# Altium footprint library Expansion board.PcbLib: 24 footprints (part 1 of 2)
Each footprint in its own frame and in the unit in brackets; x right, y up, seen from the top. Pads: shape width x height; smd on the part's side, far side on the other; paste and mask are expansions set on the pad; w line width, h text height; cw(c..) or ccw(c..) is an arc to the next point about the centre after c.
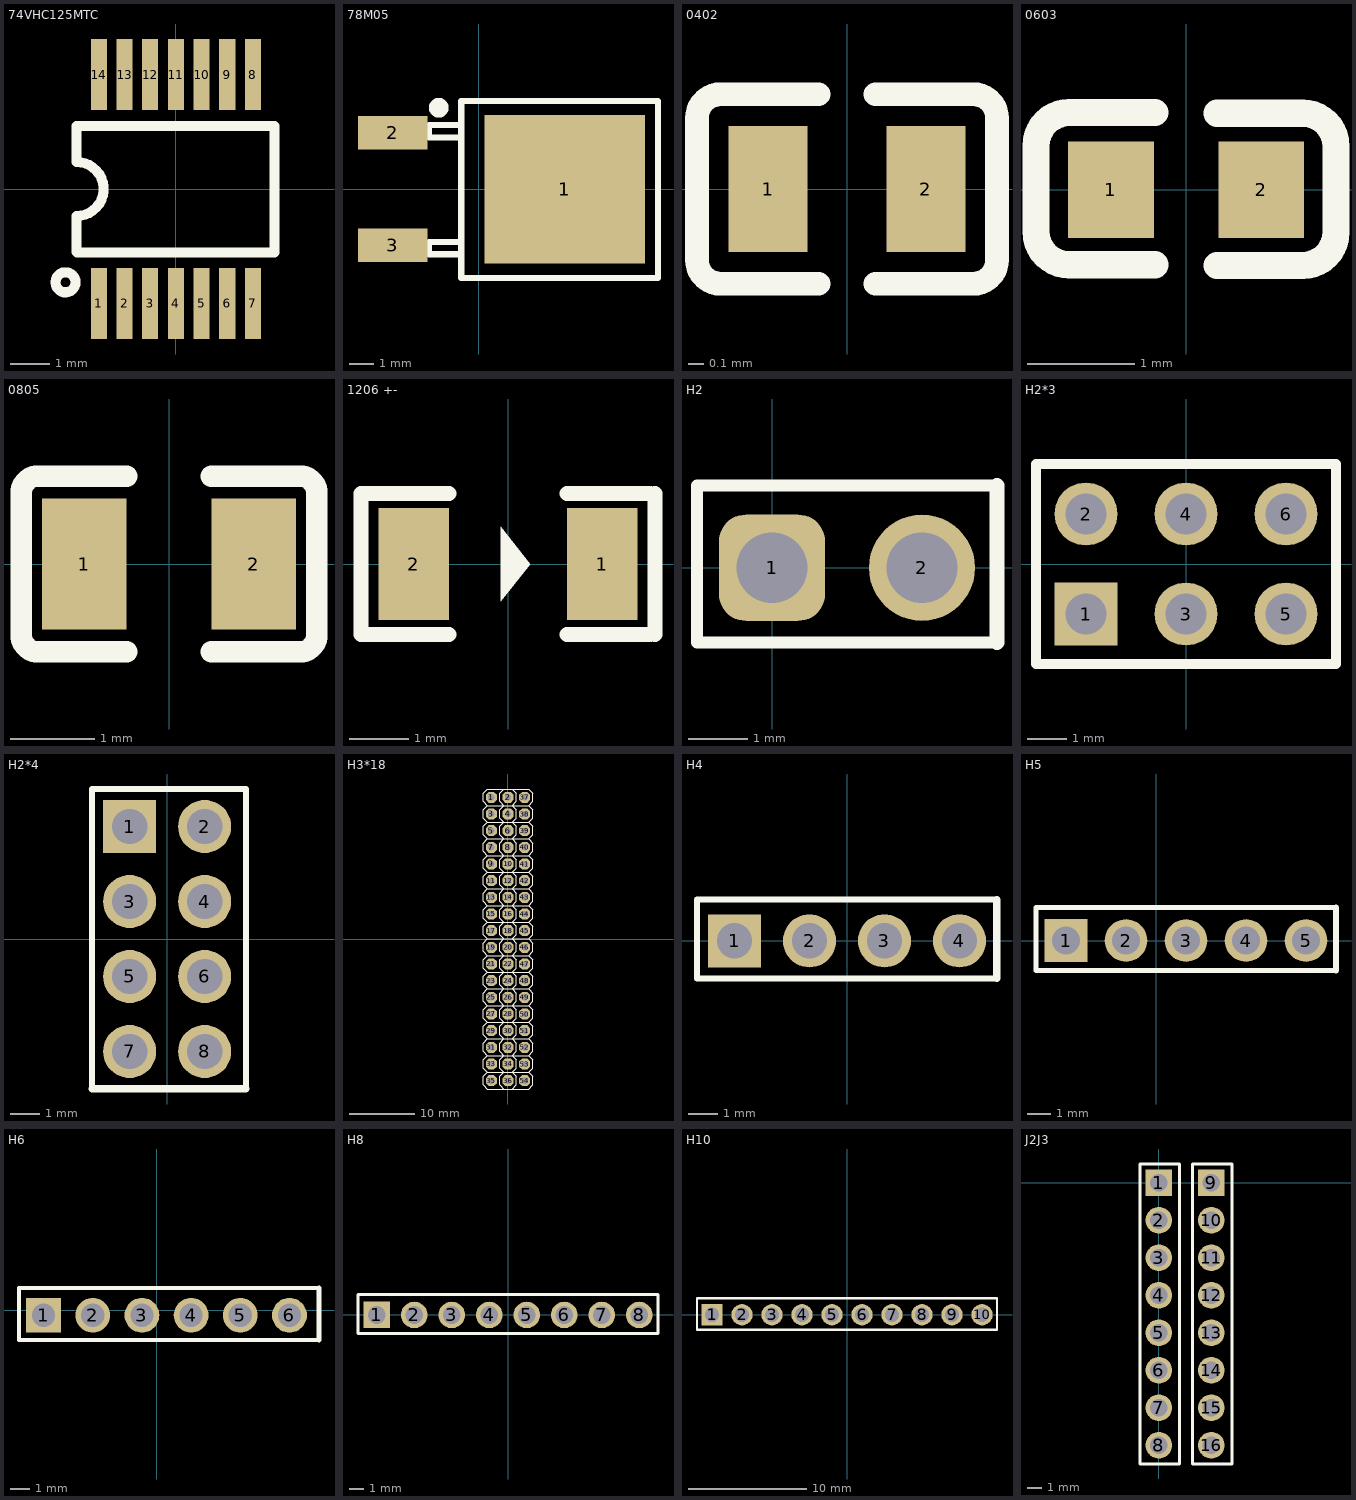
[diagram p0: the footprints below, top view; thin cyan lines are the x and y axes]

## 74VHC125MTC [mil]
pads (14):
  rect 16x71 smd: 1(-76.77,-114) 2(-51.18,-114) 3(-25.59,-114) 4(0,-114) 5(25.59,-114) 6(51.18,-114) 7(76.77,-114) 8(76.77,114) 9(51.18,114) 10(25.59,114) 11(0,114) 12(-25.59,114) 13(-51.18,114) 14(-76.77,114)
Top Overlay:
  circle w10: c-110,-93 r10
  lines w10: -99,-63 -99,-27 ccw(c-99,0) -99,27 -99,63 ; -98.5,-63.1 98.4,-63.1 98.4,62.8 -98.5,62.8
3D body "TSSOP14.STEP": height 40.55, standoff -0.76, extent -96.85,-125 100,127.13

## 78M05 [mm]
pads (3):
  rect 6.5x6 smd: 1(3.475,-0.017)
  rect 2.8x1.35 smd: 2(-3.475,2.275) 3(-3.475,-2.275)
Top Overlay:
  lines w0.254: -0.71,2.083 -2.01,2.083 -2.01,2.583 -0.71,2.583 ; -0.706,-2.64 -2.006,-2.64 -2.006,-2.14 -0.706,-2.14 ; -0.71,-3.59 -0.71,3.556 7.24,3.556 7.24,-3.59 -0.71,-3.59
  lines w0.4: -1.613,3.081 cw(c-1.611,3.281) -1.61,3.081
3D body "DPAK_TO-252AA.STEP": height 2.5, standoff 0.1, extent -3.757,-3.384 6.343,3.35

## 0402 [mm]
pads (2):
  rect 0.5x0.8 smd: 1(-0.5,0) 2(0.5,0)
Top Overlay:
  lines w0.15: -0.18,-0.6 -0.8,-0.6 cw(c-0.8,-0.45) -0.95,-0.45 -0.95,-0.4 -0.95,0.4 -0.95,0.45 cw(c-0.8,0.45) -0.8,0.6 -0.18,0.6 ; 0.18,-0.6 0.8,-0.6 ccw(c0.8,-0.45) 0.95,-0.45 0.95,-0.4 0.95,0.4 0.95,0.45 ccw(c0.8,0.45) 0.8,0.6 0.18,0.6
3D body "RES0402(1).STEP": height 0.21, standoff 0.01, extent -0.5,-0.3 0.5,0.3

## 0603 [mm]
pads (2):
  rect 0.8x0.9 smd: 1(-0.7,0) 2(0.7,0)
Top Overlay:
  lines w0.254: -0.289,-0.698 -1.089,-0.698 cw(c-1.089,-0.388) -1.399,-0.388 -1.398,0.412 cw(c-1.089,0.412) -1.089,0.722 -0.289,0.722 ; 0.287,-0.704 1.087,-0.704 ccw(c1.087,-0.394) 1.397,-0.394 1.397,0.406 ccw(c1.087,0.406) 1.087,0.716 0.287,0.716
3D body "RES0603.STEP": height 0.45, standoff 0, extent -0.8,-0.41 0.8,0.41

## 0805 [mm]
pads (2):
  rect 1x1.55 smd: 1(-1,0) 2(1,0)
Top Overlay:
  lines w0.254: -1.75,0.82 -1.75,0.8 ; -0.5,-1.04 -1.55,-1.04 cw(c-1.55,-0.84) -1.75,-0.84 -1.75,-0.8 -1.75,0.8 ; -0.5,1.04 -1.55,1.04 ccw(c-1.55,0.84) -1.75,0.84 -1.75,0.8 ; 0.5,-1.04 1.55,-1.04 ccw(c1.55,-0.84) 1.75,-0.84 1.75,-0.8 1.75,0.8 1.75,0.84 ccw(c1.55,0.84) 1.55,1.04 0.5,1.04
3D body "0805L.STEP": height 0.5, standoff 0, extent -1,-0.625 1,0.625

## 1206 +- [mm] "开关二极管"
pads (2):
  rect 1.2x1.9 smd: 1(1.6,0) 2(-1.6,0)
Top Overlay:
  region: -0.127,0 -0.127,-0.635 0.381,0 -0.127,0.635
  lines w0.254: -1,-1.2 -2.5,-1.2 -2.5,1.2 -1,1.2 ; 1,-1.2 2.2,-1.2 2.413,-1.2 ; 1,1.2 2.2,1.2 2.413,1.2 ; 2.5,-1.2 2.5,1.2
3D body "1206L.STEP": height 0.55, standoff 0, extent -1.6,-0.8 1.6,0.8

## H2 [mm]
pads (2):
  rrect50% 1.8x1.8 hole 1.2: 1(0,0)
  round 1.8 hole 1.2: 2(2.54,0)
Top Overlay:
  lines w0.203: 3.81,-1.27 -1.27,-1.27 -1.27,1.397 3.81,1.397
  lines w0.254: 3.81,-1.27 3.81,1.397
3D body "1001-2.STEP": height 8.54, standoff -3, extent -1.27,-1.27 3.81,1.27

## H2*3 [mm]
pads (6):
  rect 1.6x1.6 hole 1.05: 1(-2.54,-1.27)
  round 1.6 hole 1.05: 2(-2.54,1.27) 3(0,-1.27) 4(0,1.27) 5(2.54,-1.27) 6(2.54,1.27)
Top Overlay:
  lines w0.254: -3.81,-2.54 -3.556,-2.54 3.81,-2.54 3.81,2.54 -3.81,2.54 -3.81,-2.286 -3.81,-2.54
3D body "1001-3.STEP": height 8.54, standoff -3, extent -3.81,-2.54 3.81,0
3D body "1001-3.STEP": height 8.54, standoff -3, extent -3.81,0 3.81,2.54

## H2*4 [mm] "NRF24L01"
pads (8):
  rect 1.8x1.8 hole 1.2: 1(-1.27,3.81)
  round 1.8 hole 1.2: 2(1.27,3.81) 3(-1.27,1.27) 4(1.27,1.27) 5(-1.27,-1.27) 6(1.27,-1.27) 7(-1.27,-3.81) 8(1.27,-3.81)
Top Overlay:
  lines w0.203: -2.54,-5.08 -2.54,5.08 0.127,5.08 ; 0,5.08 2.667,5.08 2.667,-5.08
  lines w0.254: -2.54,-5.08 0.127,-5.08 ; 0,-5.08 2.667,-5.08
3D body "1001-4.STEP": height 8.54, standoff -3, extent 0,-5.08 2.54,5.08
3D body "1001-4.STEP": height 8.54, standoff -3, extent -2.54,-5.08 0,5.08

## H3*18 [mil]
pads (54):
  oct 66x66 hole 38: 1(-100,850) 2(0,850) 3(-100,750) 4(0,750) 5(-100,650) 6(0,650) 7(-100,550) 8(0,550) 9(-100,450) 10(0,450) 11(-100,350) 12(0,350) 13(-100,250) 14(0,250) 15(-100,150) 16(0,150) 17(-100,50) 18(0,50) 19(-100,-50) 20(0,-50) 21(-100,-150) 22(0,-150) 23(-100,-250) 24(0,-250) 25(-100,-350) 26(0,-350) 27(-100,-450) 28(0,-450) 29(-100,-550) 30(0,-550) 31(-100,-650) 32(0,-650) 33(-100,-750) 34(0,-750) 35(-100,-850) 36(0,-850) 37(100,850) 38(100,750) 39(100,650) 40(100,550) 41(100,450) 42(100,350) 43(100,250) 44(100,150) 45(100,50) 46(100,-50) 47(100,-150) 48(100,-250) 49(100,-350) 50(100,-450) 51(100,-550) 52(100,-650) 53(100,-750) 54(100,-850)
Top Overlay:
  drawing of 254 lines, arcs and shapes, not listed
Mechanical 16:
  region: -110,-840 -110,-860 -90,-860 -90,-840
  region: -10,-840 -10,-860 10,-860 10,-840
  region: -110,-740 -110,-760 -90,-760 -90,-740
  region: -10,-740 -10,-760 10,-760 10,-740
  region: -110,-640 -110,-660 -90,-660 -90,-640
  region: -10,-640 -10,-660 10,-660 10,-640
  region: -110,-540 -110,-560 -90,-560 -90,-540
  region: -10,-540 -10,-560 10,-560 10,-540
  region: -110,-440 -110,-460 -90,-460 -90,-440
  region: -10,-440 -10,-460 10,-460 10,-440
  region: -110,-340 -110,-360 -90,-360 -90,-340
  region: -10,-340 -10,-360 10,-360 10,-340
  region: -110,-240 -110,-260 -90,-260 -90,-240
  region: -10,-240 -10,-260 10,-260 10,-240
  region: -110,-140 -110,-160 -90,-160 -90,-140
  region: -10,-140 -10,-160 10,-160 10,-140
  region: -110,-40 -110,-60 -90,-60 -90,-40
  region: -10,-40 -10,-60 10,-60 10,-40
  region: -110,60 -110,40 -90,40 -90,60
  region: -10,60 -10,40 10,40 10,60
  region: -110,160 -110,140 -90,140 -90,160
  region: -10,160 -10,140 10,140 10,160
  region: -110,260 -110,240 -90,240 -90,260
  region: -10,260 -10,240 10,240 10,260
  region: -110,360 -110,340 -90,340 -90,360
  region: -110,460 -110,440 -90,440 -90,460
  region: -110,560 -110,540 -90,540 -90,560
  region: -10,360 -10,340 10,340 10,360
  region: -10,460 -10,440 10,440 10,460
  region: -10,560 -10,540 10,540 10,560
  region: -110,660 -110,640 -90,640 -90,660
  region: -10,660 -10,640 10,640 10,660
  region: -110,760 -110,740 -90,740 -90,760
  region: -10,760 -10,740 10,740 10,760
  region: -10,860 -10,840 10,840 10,860
  region: -110,860 -110,840 -90,840 -90,860
3D body "1001-2.STEP": height 336.22, standoff -118.11, extent -50,-900 50,-700
3D body "1001-2.STEP": height 336.22, standoff -118.11, extent -150,-900 -50,-700
3D body "1001-8.STEP": height 336.22, standoff -118.11, extent -50,-700 50,100
3D body "1001-8.STEP": height 336.22, standoff -118.11, extent -150,-700 -50,100
3D body "1001-8.STEP": height 336.22, standoff -118.11, extent -50,100 50,900
3D body "1001-8.STEP": height 336.22, standoff -118.11, extent -150,100 -50,900
3D body "1001-8.STEP": height 336.22, standoff -118.11, extent 50,100 150,900
3D body "1001-8.STEP": height 336.22, standoff -118.11, extent 50,-700 150,100
3D body "1001-2.STEP": height 336.22, standoff -118.11, extent 50,-900 150,-700

## H4 [mm]
pads (4):
  rect 1.8x1.8 hole 1.2: 1(-3.81,0)
  round 1.8 hole 1.2: 2(-1.27,0) 3(1.27,0) 4(3.81,0)
Top Overlay:
  lines w0.203: 5.08,-1.27 -5.08,-1.27 -5.08,1.397 5.08,1.397
  lines w0.254: 5.08,-1.27 5.08,1.397
3D body "1001-4.STEP": height 8.54, standoff -3, extent -5.08,-1.27 5.08,1.27

## H5 [mm]
pads (5):
  rect 1.8x1.8 hole 1.2: 1(-3.81,0)
  round 1.8 hole 1.2: 2(-1.27,0) 3(1.27,0) 4(3.81,0) 5(6.35,0)
Top Overlay:
  lines w0.203: 7.62,-1.27 -5.08,-1.27 -5.08,1.397 7.62,1.397
  lines w0.254: 7.62,-1.27 7.62,1.397
3D body "1001-4.STEP": height 8.54, standoff -3, extent -5.08,-1.27 5.08,1.27
3D body "1001-1.STEP": height 8.54, standoff -3, extent 5.08,-1.27 7.62,1.27

## H6 [mm]
pads (6):
  rect 1.8x1.8 hole 1.2: 1(-5.842,-0.254)
  round 1.8 hole 1.2: 2(-3.302,-0.254) 3(-0.762,-0.254) 4(1.778,-0.254) 5(4.318,-0.254) 6(6.858,-0.254)
Top Overlay:
  lines w0.203: 8.382,-1.524 -7.112,-1.524 -7.112,1.143 8.382,1.143
  lines w0.254: 8.382,-1.524 8.382,1.143
3D body "1001-6.STEP": height 8.54, standoff -3, extent -7.112,-1.524 8.128,1.016

## H8 [mm]
pads (8):
  rect 1.8x1.8 hole 1.2: 1(-8.89,0)
  round 1.8 hole 1.2: 2(-6.35,0) 3(-3.81,0) 4(-1.27,0) 5(1.27,0) 6(3.81,0) 7(6.35,0) 8(8.89,0)
Top Overlay:
  lines w0.203: -10.16,-1.27 0,-1.27 10.16,-1.27 10.16,1.397 0,1.397 -10.16,1.397 -10.16,-1.27
3D body "1001-8.STEP": height 8.54, standoff -3, extent -10.16,-1.27 10.16,1.27

## H10 [mm]
pads (10):
  rect 1.8x1.8 hole 1.2: 1(-11.43,0)
  round 1.8 hole 1.2: 2(-8.89,0) 3(-6.35,0) 4(-3.81,0) 5(-1.27,0) 6(1.27,0) 7(3.81,0) 8(6.35,0) 9(8.89,0) 10(11.43,0)
Top Overlay:
  lines w0.203: -12.7,-1.27 12.7,-1.27 12.7,1.397 -12.7,1.397 -12.7,-1.27
3D body "1001-8.STEP": height 8.54, standoff -3, extent -12.7,-1.27 7.62,1.27
3D body "1001-2.STEP": height 8.54, standoff -3, extent 7.62,-1.27 12.7,1.27

## J2J3 [mm]
pads (16):
  rect 1.8x1.8 hole 1.2: 1(0,0) 9(3.556,0)
  round 1.8 hole 1.2: 2(0,-2.54) 3(0,-5.08) 4(0,-7.62) 5(0,-10.16) 6(0,-12.7) 7(0,-15.24) 8(0,-17.78) 10(3.556,-2.54) 11(3.556,-5.08) 12(3.556,-7.62) 13(3.556,-10.16) 14(3.556,-12.7) 15(3.556,-15.24) 16(3.556,-17.78)
Top Overlay:
  lines w0.203: -1.27,-19.05 -1.27,-8.89 -1.27,1.27 1.397,1.27 1.397,-8.89 1.397,-19.05 -1.27,-19.05 ; 2.286,-19.05 2.286,-8.89 2.286,1.27 4.953,1.27 4.953,-8.89 4.953,-19.05 2.286,-19.05
3D body "1001-8.STEP": height 8.54, standoff -3, extent 2.413,-19.05 4.953,1.27
3D body "1001-8.STEP": height 8.54, standoff -3, extent -1.206,-19.05 1.333,1.27